# EAGLE library part ESP32-WROOM-32E_(4MB) (library 2024-11-24_23-16-38_Library)
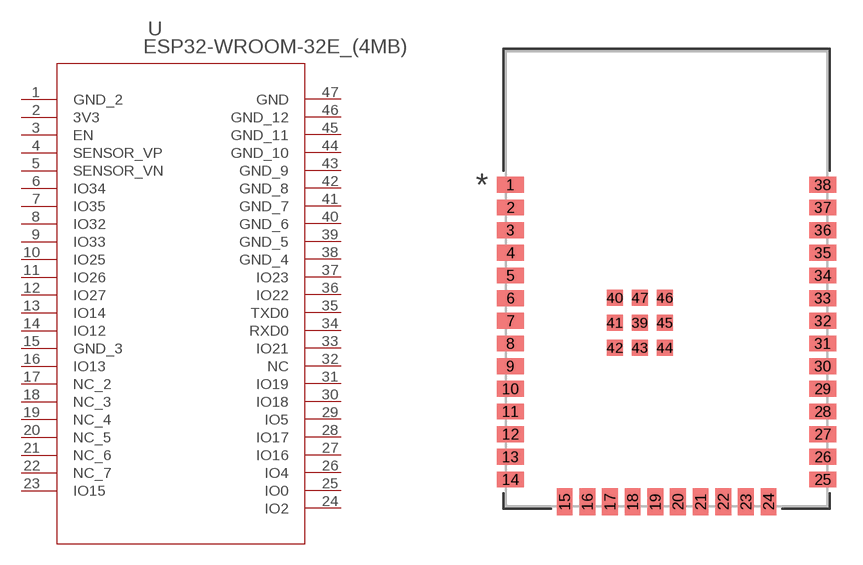
[diagram p0: symbol with the pads of ESP32­WROOM­32E_EXP; footprint ESP32­WROOM­32E_EXP]

Designator prefix U

## ESP32-WROOM-32E_(4MB)ESP32­WROOM­32E_EXP (Copyright: Copyright (C) 2024 Ultra Librarian. All rights reserved.; Manufacturer_Part_Number: ESP32-WROOM-32E (4MB); Mfr_Name: Espressif Systems)  [ESP32­WROOM­32E_EXP]
1  GND_2  pas
2  3V3  pwr
3  EN  in
4  SENSOR_VP  in
5  SENSOR_VN  in
6  IO34  in
7  IO35  in
8  IO32
9  IO33
10  IO25
11  IO26
12  IO27
13  IO14
14  IO12
15  GND_3  pas
16  IO13
17  NC_2  nc
18  NC_3  nc
19  NC_4  nc
20  NC_5  nc
21  NC_6  nc
22  NC_7  nc
23  IO15
24  IO2
25  IO0
26  IO4
27  IO16
28  IO17
29  IO5
30  IO18
31  IO19
32  NC  nc
33  IO21
34  RXD0
35  TXD0
36  IO22
37  IO23
38  GND_4  pas
39  GND_5  pas
40  GND_6  pas
41  GND_7  pas
42  GND_8  pas
43  GND_9  pas
44  GND_10  pas
45  GND_11  pas
46  GND_12  pas
47  GND  pas

## Footprint ESP32­WROOM­32E_EXP (pad centres in mm)
smd 1.499 x 0.889: 1 -8.75,5.26; 2 -8.75,3.99; 3 -8.75,2.72; 4 -8.75,1.45; 5 -8.75,0.18; 6 -8.75,-1.09; 7 -8.75,-2.36; 8 -8.75,-3.63; 9 -8.75,-4.9; 10 -8.75,-6.17; 11 -8.75,-7.44; 12 -8.75,-8.71; 13 -8.75,-9.98; 14 -8.75,-11.25; 25 8.75,-11.25; 26 8.75,-9.98; 27 8.75,-8.71; 28 8.75,-7.44; 29 8.75,-6.17; 30 8.75,-4.9; 31 8.75,-3.63; 32 8.75,-2.36; 33 8.75,-1.09; 34 8.75,0.18; 35 8.75,1.45; 36 8.75,2.72; 37 8.75,3.99; 38 8.75,5.26
smd 0.889 x 1.499: 15 -5.715,-12.501; 16 -4.445,-12.501; 17 -3.175,-12.501; 18 -1.905,-12.501; 19 -0.635,-12.501; 20 0.635,-12.501; 21 1.905,-12.501; 22 3.175,-12.501; 23 4.445,-12.501; 24 5.715,-12.501
smd 0.889 x 0.889: 39 -1.501,-2.461; 40 -2.901,-1.062; 41 -2.901,-2.461; 42 -2.901,-3.861; 43 -1.501,-3.861; 44 -0.102,-3.861; 45 -0.102,-2.461; 46 -0.102,-1.062; 47 -1.501,-1.062